# Altium footprint library Potentiometer_THT.PcbLib: 106 footprints (part 6 of 7)
Each footprint in its own frame and in the unit in brackets; x right, y up, seen from the top. Pads: shape width x height; smd on the part's side, far side on the other; paste and mask are expansions set on the pad; w line width, h text height; cw(c..) or ccw(c..) is an arc to the next point about the centre after c.
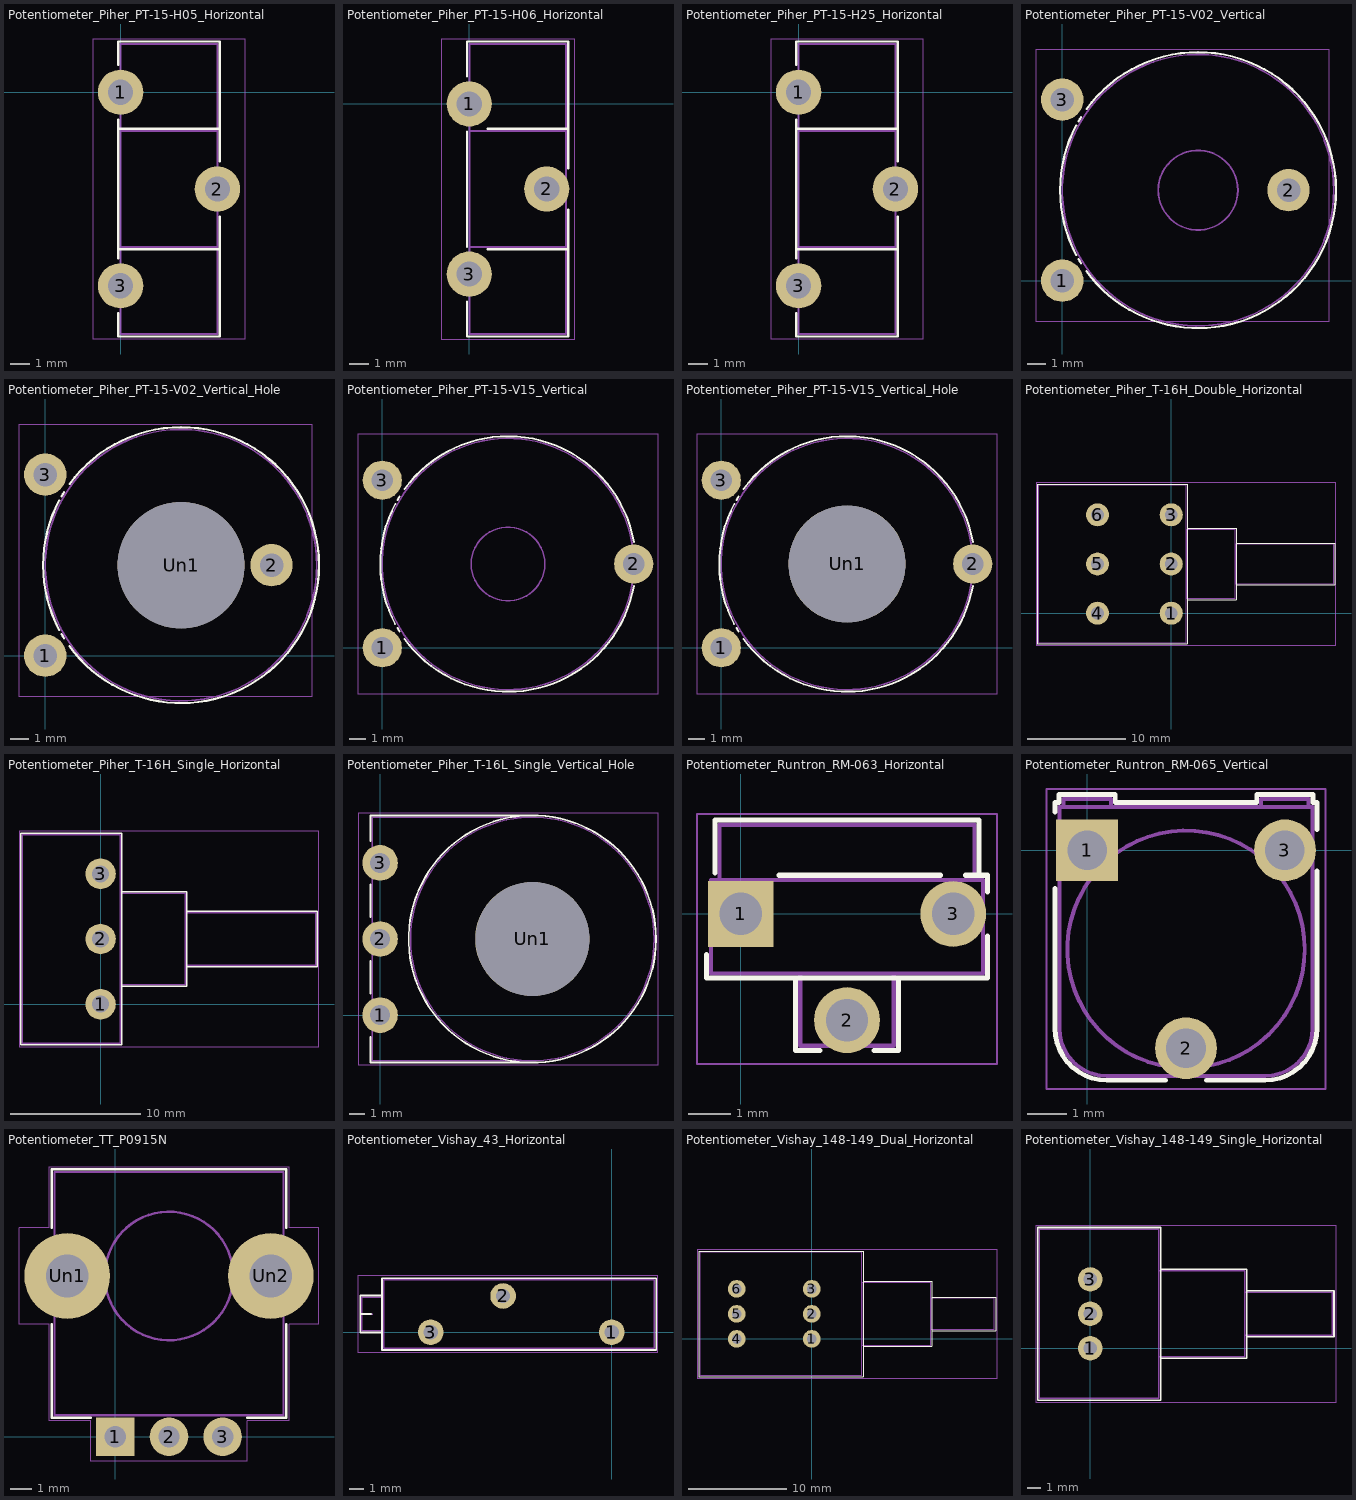
[diagram p5: the footprints below, top view; thin cyan lines are the x and y axes]

## Potentiometer_Piher_PT-15-H05_Horizontal [mm]
pads (3):
  round 2.34 hole 1.3: 1(0,0) 2(5,-5) 3(0,-10)
F.SilkS:
  lines w0.12: -0.121,-11.425 -0.121,-12.62 5.12,-12.62 5.12,-6.425 5.12,-8.121 -0.121,-8.121 -0.121,-1.88 5.12,-1.88 5.12,-3.575 5.12,2.62 -0.121,2.62 -0.121,1.426 ; -0.121,-8.575 -0.121,-1.426
F.CrtYd:
  lines w0.05: -1.45,-12.75 6.45,-12.75 6.45,2.75 -1.45,2.75 -1.45,-12.75
F.Fab:
  lines w0.1: 0,-12.5 5,-12.5 5,2.5 0,2.5 0,-12.5 ; 0,-8 5,-8 5,-2 0,-2 0,-8
  text "'.Designator'" at -1.547,-5.84 h1

## Potentiometer_Piher_PT-15-H06_Horizontal [mm]
pads (3):
  round 2.34 hole 1.3: 1(0,0) 2(4,-4.4) 3(0,-8.8)
F.SilkS:
  lines w0.12: -0.121,-10.226 -0.121,-12.02 5.12,-12.02 5.12,-5.473 5.12,-7.52 0.948,-7.52 ; -0.121,1.426 -0.121,3.22 5.12,3.22 5.12,-3.328 5.12,-1.281 0.948,-1.281 ; -0.121,-7.376 -0.121,-1.426 -0.121,-7.376
F.CrtYd:
  lines w0.05: -1.45,-12.15 5.45,-12.15 5.45,3.35 -1.45,3.35 -1.45,-12.15
F.Fab:
  lines w0.1: 0,-11.9 5,-11.9 5,3.1 0,3.1 0,-11.9 ; 0,-7.4 5,-7.4 5,-1.4 0,-1.4 0,-7.4
  text "'.Designator'" at -1.547,-5.24 h1

## Potentiometer_Piher_PT-15-H25_Horizontal [mm]
pads (3):
  round 2.34 hole 1.3: 1(0,0) 2(5,-5) 3(0,-10)
F.SilkS:
  lines w0.12: -0.121,-11.425 -0.121,-12.62 5.12,-12.62 5.12,-6.425 5.12,-8.121 -0.121,-8.121 -0.121,-1.88 5.12,-1.88 5.12,-3.575 5.12,2.62 -0.121,2.62 -0.121,1.426 ; -0.121,-8.575 -0.121,-1.426
F.CrtYd:
  lines w0.05: -1.45,-12.75 6.45,-12.75 6.45,2.75 -1.45,2.75 -1.45,-12.75
F.Fab:
  lines w0.1: 0,-12.5 0,2.5 5,2.5 5,-12.5 0,-12.5 ; 0,-8 5,-8 5,-2 0,-2 0,-8
  text "'.Designator'" at -1.547,-5.84 h1

## Potentiometer_Piher_PT-15-V02_Vertical [mm]
pads (3):
  round 2.34 hole 1.3: 1(0,0) 2(12.5,5) 3(0,10)
F.SilkS:
  lines w0.12: 0.772,1.424 cw(c7.5,5) 0.773,8.578 ; 0.901,1.191 ccw(c7.499,4.999) 1.038,0.963 ; 0.902,8.81 cw(c7.499,5.001) 1.039,9.038 ; 1.335,0.522 ccw(c7.5,5) 7.632,-2.619 ; 1.335,9.479 cw(c7.5,5) 7.5,-2.62
F.CrtYd:
  lines w0.05: -1.45,-2.25 14.75,-2.25 14.75,12.75 -1.45,12.75 -1.45,-2.25
F.Fab:
  circle w0.1: c7.5,5 r2.2
  circle w0.1: c7.5,5 r7.5
  text "'.Designator'" at 2.04,0.953 h1

## Potentiometer_Piher_PT-15-V02_Vertical_Hole [mm]
pads (4):
  round 2.34 hole 1.3: 1(0,0) 2(12.5,5) 3(0,10)
  round 7 hole 7: Un1(7.5,5)
F.SilkS:
  lines w0.12: 0.772,1.424 cw(c7.5,5) 0.773,8.578 ; 0.901,1.191 ccw(c7.499,4.999) 1.038,0.963 ; 0.902,8.81 cw(c7.499,5.001) 1.039,9.038 ; 1.335,0.522 ccw(c7.5,5) 7.632,-2.619 ; 1.335,9.479 cw(c7.5,5) 7.5,-2.62
F.CrtYd:
  lines w0.05: -1.45,-2.25 14.75,-2.25 14.75,12.75 -1.45,12.75 -1.45,-2.25
F.Fab:
  circle w0.1: c7.5,5 r7.5
  text "'.Designator'" at 2.04,0.953 h1

## Potentiometer_Piher_PT-15-V15_Vertical [mm]
pads (3):
  round 2.34 hole 1.3: 1(0,0) 2(15,5) 3(0,10)
F.SilkS:
  lines w0.12: 0.772,1.424 cw(c7.5,5) 0.773,8.578 ; 0.901,1.191 ccw(c7.499,4.999) 1.038,0.963 ; 0.902,8.81 cw(c7.499,5.001) 1.039,9.038 ; 1.335,0.522 ccw(c7.5,5) 7.632,-2.619 ; 1.336,9.48 cw(c7.5,5) 15.005,6.322 ; 7.5,-2.62 ccw(c7.5,5) 15.004,3.677
F.CrtYd:
  lines w0.05: -1.45,-2.75 -1.45,12.75 16.45,12.75 16.45,-2.75 -1.45,-2.75
F.Fab:
  circle w0.1: c7.5,5 r7.5
  circle w0.1: c7.5,5 r2.2
  text "'.Designator'" at 2.04,0.953 h1

## Potentiometer_Piher_PT-15-V15_Vertical_Hole [mm]
pads (4):
  round 2.34 hole 1.3: 1(0,0) 2(15,5) 3(0,10)
  round 7 hole 7: Un1(7.5,5)
F.SilkS:
  lines w0.12: 0.772,1.424 cw(c7.5,5) 0.773,8.578 ; 0.901,1.191 ccw(c7.499,4.999) 1.038,0.963 ; 0.902,8.81 cw(c7.499,5.001) 1.039,9.038 ; 1.335,0.522 ccw(c7.5,5) 7.632,-2.619 ; 1.336,9.48 cw(c7.5,5) 15.005,6.322 ; 7.5,-2.62 ccw(c7.5,5) 15.004,3.677
F.CrtYd:
  lines w0.05: -1.45,-2.75 16.45,-2.75 16.45,12.75 -1.45,12.75 -1.45,-2.75
F.Fab:
  circle w0.1: c7.5,5 r7.5
  text "'.Designator'" at 2.04,0.953 h1

## Potentiometer_Piher_T-16H_Double_Horizontal [mm]
pads (6):
  round 2.34 hole 1.3: 1(0,0) 2(0,5) 3(0,10) 4(-7.5,0) 5(-7.5,5) 6(-7.5,10)
F.SilkS:
  lines w0.12: -13.62,-3.12 -13.62,13.12 1.621,13.12 1.621,-3.12 -13.62,-3.12 ; 1.621,1.38 1.621,8.62 6.621,8.62 6.621,1.38 1.621,1.38 ; 6.621,2.88 6.621,7.12 16.62,7.12 16.62,2.88 6.621,2.88
F.CrtYd:
  lines w0.05: -13.75,-3.25 -13.75,13.25 16.75,13.25 16.75,-3.25 -13.75,-3.25
F.Fab:
  lines w0.1: -13.5,-3 -13.5,13 1.5,13 1.5,-3 -13.5,-3 ; 1.5,1.5 6.5,1.5 6.5,8.5 1.5,8.5 1.5,1.5 ; 6.5,3 16.5,3 16.5,7 6.5,7 6.5,3
  text "'.Designator'" at -10.047,4.16 h1

## Potentiometer_Piher_T-16H_Single_Horizontal [mm]
pads (3):
  round 2.34 hole 1.3: 1(0,0) 2(0,5) 3(0,10)
F.SilkS:
  lines w0.12: -6.12,-3.12 -6.12,13.12 1.62,13.12 1.62,-3.12 -6.12,-3.12 ; 1.62,1.38 1.62,8.62 6.62,8.62 6.62,1.38 1.62,1.38 ; 6.62,2.88 6.62,7.12 16.62,7.12 16.62,2.88 6.62,2.88
F.CrtYd:
  lines w0.05: -6.25,-3.25 16.75,-3.25 16.75,13.25 -6.25,13.25 -6.25,-3.25
F.Fab:
  lines w0.1: -6,-3 1.5,-3 1.5,13 -6,13 -6,-3 ; 1.5,1.5 6.5,1.5 6.5,8.5 1.5,8.5 1.5,1.5 ; 6.5,3 16.5,3 16.5,7 6.5,7 6.5,3
  text "'.Designator'" at -6.297,4.16 h1

## Potentiometer_Piher_T-16L_Single_Vertical_Hole [mm]
pads (4):
  round 2.34 hole 1.3: 1(0,0) 2(0,5) 3(0,10)
  round 7.5 hole 7.5: Un1(10,5)
F.SilkS:
  circle w0.12: c10,5 r8.12
  lines w0.12: -0.62,-1.425 -0.62,-3.12 10,-3.12 ; -0.62,1.425 -0.62,3.575 ; -0.62,6.425 -0.62,8.574 ; -0.62,11.426 -0.62,13.12 10,13.12
F.CrtYd:
  lines w0.05: -1.45,-3.25 18.25,-3.25 18.25,13.25 -1.45,13.25 -1.45,-3.25
F.Fab:
  circle w0.1: c10,5 r8
  lines w0.1: 10,-3 -0.5,-3 -0.5,13 10,13
  text "'.Designator'" at 1.34,0.953 h1

## Potentiometer_Runtron_RM-063_Horizontal [mm]
pads (3):
  rect 1.55x1.55 hole 1: 1(0,0)
  round 1.55 hole 1: 2(2.5,-2.5) 3(5,0)
F.SilkS:
  lines w0.12: -0.81,-0.96 -0.81,-1.51 5.81,-1.51 5.81,-0.52 ; -0.61,0.96 -0.61,2.2 ; -0.61,2.21 5.61,2.21 5.61,0.91 ; 0.9,0.91 4.7,0.91 ; 1.29,-1.51 1.29,-3.21 1.86,-3.21 ; 3.14,-3.21 3.71,-3.21 3.71,-1.51 ; 5.29,0.91 5.81,0.91 5.81,0.52
F.CrtYd:
  lines w0.05: -1.03,-3.53 -1.03,2.35 6.03,2.35 6.03,-3.53 -1.03,-3.53
F.Fab:
  lines w0.1: -0.5,0.8 -0.5,2.1 5.5,2.1 5.5,0.8 ; 1.4,-1.4 1.4,-3.1 3.6,-3.1 3.6,-1.4 ; -0.7,-1.4 -0.7,0.8 5.7,0.8 5.7,-1.4 -0.7,-1.4
  text "'.Designator'" at -1.547,-1.14 h1

## Potentiometer_Runtron_RM-065_Vertical [mm]
pads (3):
  rect 1.56x1.56 hole 1: 1(0,0)
  round 1.56 hole 1: 2(2.5,-5) 3(5,0)
F.SilkS:
  lines w0.12: -0.81,-0.96 -0.81,-4.5 ccw(c0.5,-4.5) 0.5,-5.81 1.99,-5.81 ; -0.81,0.96 -0.81,1.21 -0.71,1.21 -0.71,1.41 0.71,1.41 0.71,1.21 4.29,1.21 4.29,1.41 5.71,1.41 5.71,1.21 5.81,1.21 5.81,0.52 ; 3.01,-5.81 4.5,-5.81 ccw(c4.5,-4.5) 5.81,-4.5 5.81,-0.52
F.CrtYd:
  lines w0.05: -1.03,-6.03 6.03,-6.03 6.03,1.55 -1.03,1.55 -1.03,-6.03
F.Fab:
  circle w0.1: c2.5,-2.5 r3
  lines w0.1: -0.6,1.1 -0.6,1.3 0.6,1.3 0.6,1.1 ; 4.4,1.1 4.4,1.3 ; 4.41,1.3 5.6,1.3 5.6,1.1 ; -0.7,-4.5 -0.7,1.1 5.7,1.1 5.7,-4.5 cw(c4.5,-4.5) 4.5,-5.7 0.5,-5.7 cw(c0.5,-4.5) -0.7,-4.5
  text "'.Designator'" at -1.547,-3.34 h1

## Potentiometer_TT_P0915N [mm]
pads (5):
  rect 1.8x1.8 hole 1: 1(0,0)
  round 1.8 hole 1: 2(2.5,0) 3(5,0)
  rrect100% 4x4 hole 2: Un1(-2.25,7.5) Un2(7.25,7.5)
F.SilkS:
  lines w0.12: -2.97,5.25 -2.97,0.88 -1.15,0.88 ; -2.97,9.75 -2.97,12.47 7.97,12.47 7.97,9.75 ; 6.15,0.88 7.97,0.88 7.97,5.25
F.CrtYd:
  lines w0.05: -4.5,5.25 -4.5,9.75 -3.1,9.75 -3.1,12.6 8.1,12.6 8.1,9.75 9.5,9.75 9.5,5.25 8.1,5.25 8.1,0.75 6.15,0.75 6.15,-1.15 -1.15,-1.15 -1.15,0.75 -3.1,0.75 -3.1,5.25 -4.5,5.25
F.Fab:
  circle w0.12: c2.5,7.5 r3
  lines w0.1: -2.85,1 -2.85,12.35 7.85,12.35 7.85,1 -2.85,1
  text "'.Designator'" at -1.547,6.66 h1

## Potentiometer_Vishay_43_Horizontal [mm]
pads (3):
  round 1.8 hole 1: 1(0,0) 2(-7.62,2.54) 3(-12.7,0)
F.SilkS:
  lines w0.12: -17.64,1.27 -16.881,1.27 ; -17.64,-0.03 -17.64,2.57 -16.121,2.57 -16.121,-0.03 -17.64,-0.03 ; -16.12,-1.25 -16.12,3.79 3.12,3.79 3.12,-1.25 -16.12,-1.25
F.CrtYd:
  lines w0.05: -17.8,-1.4 -17.8,3.95 3.25,3.95 3.25,-1.4 -17.8,-1.4
F.Fab:
  lines w0.1: -17.52,1.27 -16.76,1.27 ; -17.52,0.09 -16,0.09 -16,2.45 -17.52,2.45 -17.52,0.09 ; -16,-1.13 -16,3.67 3,3.67 3,-1.13 -16,-1.13
  text "'.Designator'" at -10.547,0.43 h1

## Potentiometer_Vishay_148-149_Dual_Horizontal [mm]
pads (6):
  round 1.8 hole 1: 1(0,0) 2(0,2.54) 3(0,5.08) 4(-7.62,0) 5(-7.62,2.54) 6(-7.62,5.08)
F.SilkS:
  lines w0.12: -11.49,-3.83 5.2,-3.83 5.2,8.91 -11.49,8.91 -11.49,-3.83 ; 5.2,-0.755 5.2,5.835 12.2,5.835 12.2,-0.755 5.2,-0.755 ; 12.2,0.835 18.65,0.835 18.65,4.244 12.2,4.244 12.2,0.835
F.CrtYd:
  lines w0.05: -11.65,-4 18.8,-4 18.8,9.05 -11.65,9.05 -11.65,-4
F.Fab:
  lines w0.1: -11.37,-3.71 -11.37,8.79 5.08,8.79 5.08,-3.71 -11.37,-3.71 ; 5.08,-0.635 5.08,5.715 12.08,5.715 12.08,-0.635 5.08,-0.635 ; 12.08,0.955 12.08,4.125 18.53,4.125 18.53,0.955 12.08,0.955
  text "'.Designator'" at -7.192,1.7 h1

## Potentiometer_Vishay_148-149_Single_Horizontal [mm]
pads (3):
  round 1.8 hole 1: 1(0,0) 2(0,2.54) 3(0,5.08)
F.SilkS:
  lines w0.12: -3.87,-3.83 5.2,-3.83 5.2,8.91 -3.87,8.91 -3.87,-3.83 ; 5.2,-0.755 11.55,-0.755 11.55,5.835 5.2,5.835 5.2,-0.755 ; 11.55,0.835 11.55,4.244 18,4.244 18,0.835 11.55,0.835
F.CrtYd:
  lines w0.05: -4,-4 -4,9.05 18.15,9.05 18.15,-4 -4,-4
F.Fab:
  lines w0.1: -3.75,-3.71 -3.75,8.79 5.08,8.79 5.08,-3.71 -3.75,-3.71 ; 5.08,-0.635 11.43,-0.635 11.43,5.715 5.08,5.715 5.08,-0.635 ; 11.43,0.955 11.43,4.125 17.88,4.125 17.88,0.955 11.43,0.955
  text "'.Designator'" at -3.382,1.7 h1